# EAGLE library part LATTICE_LCMXO2-640HC-4TG100C (library john_mamish_mcu_library)
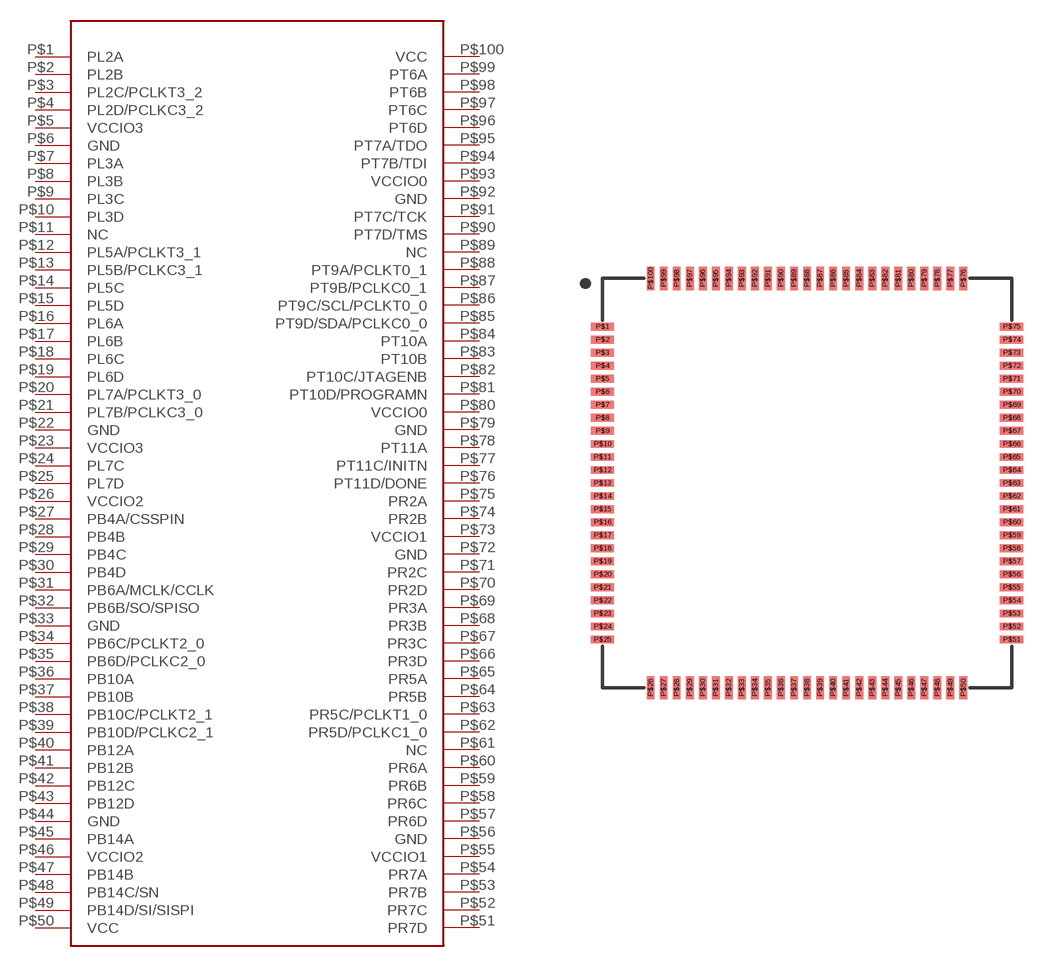
[diagram p6: symbol with the pads of LATTICE_MACHXO_TQFP100; footprint LATTICE_MACHXO_TQFP100]

Designator prefix -

## LATTICE_LCMXO2-640HC-4TG100C  [LATTICE_MACHXO_TQFP100]
P$1  PL2A
P$2  PL2B
P$3  PL2C/PCLKT3_2
P$4  PL2D/PCLKC3_2
P$5  VCCIO3
P$6  GND
P$7  PL3A
P$8  PL3B
P$9  PL3C
P$10  PL3D
P$11  NC
P$12  PL5A/PCLKT3_1
P$13  PL5B/PCLKC3_1
P$14  PL5C
P$15  PL5D
P$16  PL6A
P$17  PL6B
P$18  PL6C
P$19  PL6D
P$20  PL7A/PCLKT3_0
P$21  PL7B/PCLKC3_0
P$22  GND
P$23  VCCIO3
P$24  PL7C
P$25  PL7D
P$26  VCCIO2
P$27  PB4A/CSSPIN
P$28  PB4B
P$29  PB4C
P$30  PB4D
P$31  PB6A/MCLK/CCLK
P$32  PB6B/SO/SPISO
P$33  GND
P$34  PB6C/PCLKT2_0
P$35  PB6D/PCLKC2_0
P$36  PB10A
P$37  PB10B
P$38  PB10C/PCLKT2_1
P$39  PB10D/PCLKC2_1
P$40  PB12A
P$41  PB12B
P$42  PB12C
P$43  PB12D
P$44  GND
P$45  PB14A
P$46  VCCIO2
P$47  PB14B
P$48  PB14C/SN
P$49  PB14D/SI/SISPI
P$50  VCC
P$51  PR7D
P$52  PR7C
P$53  PR7B
P$54  PR7A
P$55  VCCIO1
P$56  GND
P$57  PR6D
P$58  PR6C
P$59  PR6B
P$60  PR6A
P$61  NC
P$62  PR5D/PCLKC1_0
P$63  PR5C/PCLKT1_0
P$64  PR5B
P$65  PR5A
P$66  PR3D
P$67  PR3C
P$68  PR3B
P$69  PR3A
P$70  PR2D
P$71  PR2C
P$72  GND
P$73  VCCIO1
P$74  PR2B
P$75  PR2A
P$76  PT11D/DONE
P$77  PT11C/INITN
P$78  PT11A
P$79  GND
P$80  VCCIO0
P$81  PT10D/PROGRAMN
P$82  PT10C/JTAGENB
P$83  PT10B
P$84  PT10A
P$85  PT9D/SDA/PCLKC0_0
P$86  PT9C/SCL/PCLKT0_0
P$87  PT9B/PCLKC0_1
P$88  PT9A/PCLKT0_1
P$89  NC
P$90  PT7D/TMS
P$91  PT7C/TCK
P$92  GND
P$93  VCCIO0
P$94  PT7B/TDI
P$95  PT7A/TDO
P$96  PT6D
P$97  PT6C
P$98  PT6B
P$99  PT6A
P$100  VCC

## Footprint LATTICE_MACHXO_TQFP100 (pad centres in mm)
smd 0.9 x 0.3: P$1 0,0; P$2 0,-0.5; P$3 0,-1; P$4 0,-1.5; P$5 0,-2; P$6 0,-2.5; P$7 0,-3; P$8 0,-3.5; P$9 0,-4; P$10 0,-4.5; P$11 0,-5; P$12 0,-5.5; P$13 0,-6; P$14 0,-6.5; P$15 0,-7; P$16 0,-7.5; P$17 0,-8; P$18 0,-8.5; P$19 0,-9; P$20 0,-9.5; P$21 0,-10; P$22 0,-10.5; P$23 0,-11; P$24 0,-11.5; P$25 0,-12; P$51 15.7,-12; P$52 15.7,-11.5; P$53 15.7,-11; P$54 15.7,-10.5; P$55 15.7,-10; P$56 15.7,-9.5; P$57 15.7,-9; P$58 15.7,-8.5; P$59 15.7,-8; P$60 15.7,-7.5; P$61 15.7,-7; P$62 15.7,-6.5; P$63 15.7,-6; P$64 15.7,-5.5; P$65 15.7,-5; P$66 15.7,-4.5; P$67 15.7,-4; P$68 15.7,-3.5; P$69 15.7,-3; P$70 15.7,-2.5; P$71 15.7,-2; P$72 15.7,-1.5; P$73 15.7,-1; P$74 15.7,-0.5; P$75 15.7,0
smd 0.3 x 0.9: P$26 1.85,-13.85; P$27 2.35,-13.85; P$28 2.85,-13.85; P$29 3.35,-13.85; P$30 3.85,-13.85; P$31 4.35,-13.85; P$32 4.85,-13.85; P$33 5.35,-13.85; P$34 5.85,-13.85; P$35 6.35,-13.85; P$36 6.85,-13.85; P$37 7.35,-13.85; P$38 7.85,-13.85; P$39 8.35,-13.85; P$40 8.85,-13.85; P$41 9.35,-13.85; P$42 9.85,-13.85; P$43 10.35,-13.85; P$44 10.85,-13.85; P$45 11.35,-13.85; P$46 11.85,-13.85; P$47 12.35,-13.85; P$48 12.85,-13.85; P$49 13.35,-13.85; P$50 13.85,-13.85; P$76 13.85,1.85; P$77 13.35,1.85; P$78 12.85,1.85; P$79 12.35,1.85; P$80 11.85,1.85; P$81 11.35,1.85; P$82 10.85,1.85; P$83 10.35,1.85; P$84 9.85,1.85; P$85 9.35,1.85; P$86 8.85,1.85; P$87 8.35,1.85; P$88 7.85,1.85; P$89 7.35,1.85; P$90 6.85,1.85; P$91 6.35,1.85; P$92 5.85,1.85; P$93 5.35,1.85; P$94 4.85,1.85; P$95 4.35,1.85; P$96 3.85,1.85; P$97 3.35,1.85; P$98 2.85,1.85; P$99 2.35,1.85; P$100 1.85,1.85